# Altium schematic symbol library CAP-0603.SchLib: 7 symbols
Pins are listed as number, name and electrical type; pins without a type are passive.

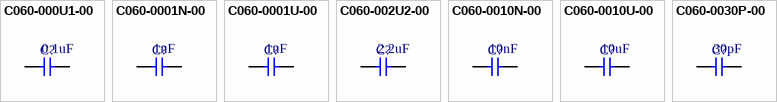
[diagram p0: symbols C060-000U1-00 to C060-0030P-00]

## C060-000U1-00
designator C?  value 0.1uF  (hidden comment: C060-000U1-00)
CAP CER 0603 0.1uF 16V X5R 20%; Tolerance: 20%; Voltage: 16V; Package: 0603
footprint PCB_GENERIC_SMD_0603
pins: 1, 2

## C060-0001N-00
designator C?  value 1nF  (hidden comment: C060-0001N-00)
CAP CER 0603 1nF 50V X7R 10%; Tolerance: 10%; Voltage: 50V; Package: 0603
footprint PCB_GENERIC_SMD_0603
pins: 1, 2

## C060-0001U-00
designator C?  value 1uF  (hidden comment: C060-0001U-00)
CAP CER 0603 1uF 16V X5R 20%; Tolerance: 20%; Voltage: 16V; Package: 0603
footprint PCB_GENERIC_SMD_0603
pins: 1, 2

## C060-002U2-00
designator C?  value 2.2uF  (hidden comment: C060-002U2-00)
CAP CER 0603 2.2uF 16V X5R 20%; Tolerance: 20%; Voltage: 16V; Package: 0603
footprint PCB_GENERIC_SMD_0603
pins: 1, 2

## C060-0010N-00
designator C?  value 10nF  (hidden comment: C060-0010N-00)
CAP CER 0603 10nF 50V X7R 10%; Tolerance: 10%; Voltage: 50V; Package: 0603
footprint PCB_GENERIC_SMD_0603
pins: 1, 2

## C060-0010U-00
designator C?  value 10uF  (hidden comment: C060-0010U-00)
CAP CER 0603 10uF 6.3V X5R 20%; Tolerance: 20%; Voltage: 6.3V; Package: 0603
footprint PCB_GENERIC_SMD_0603
pins: 1, 2

## C060-0030P-00
designator C?  value 30pF  (hidden comment: C060-0030P-00)
CAP CER 0603 30pF 50V NP0 5%; Tolerance: 5%; Voltage: 50V; Package: 0603
footprint PCB_GENERIC_SMD_0603
pins: 1, 2